# Altium integrated library ArgoFC.IntLib: 104 symbols (part 1 of 2)
Pins are listed as number, name and electrical type; pins without a type are passive.

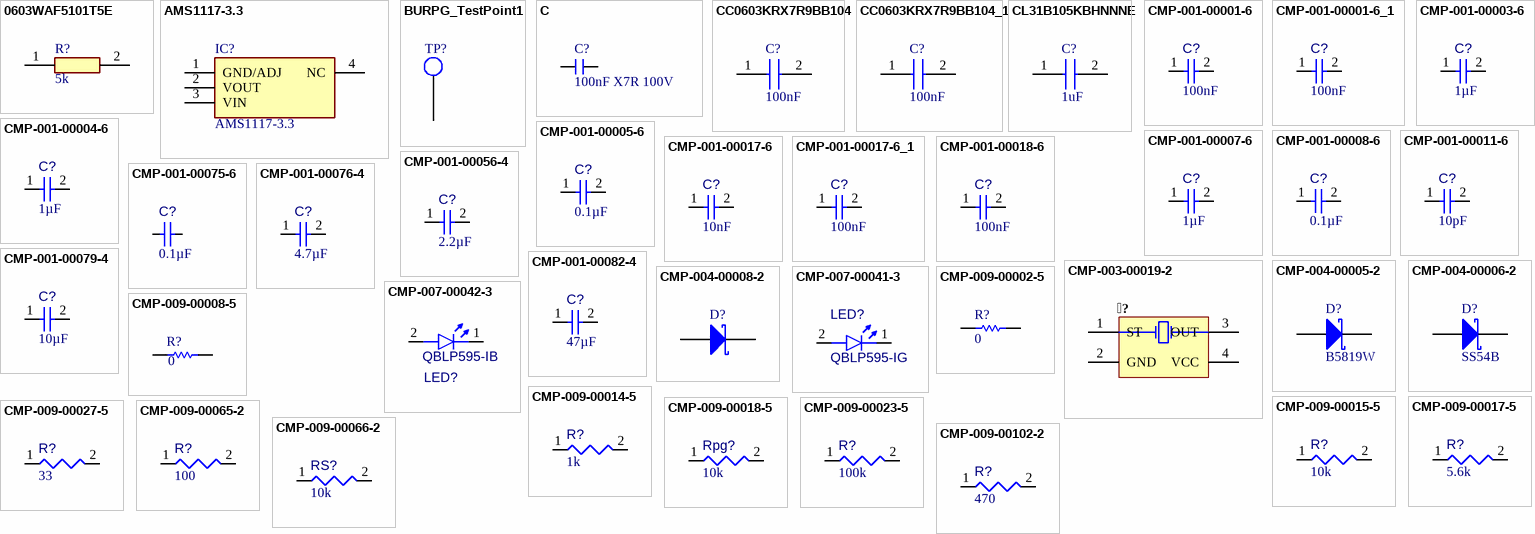
[diagram p0: symbols 0603WAF5101T5E to CMP-009-00102-2]

## 0603WAF5101T5E
designator R?, comment 5k
0603 5K resistor, Pick based component in JLCPCB lib; Manufacturer_Name: UNI-ROYAL(Uniroyal Elec); Manufacturer_Part_Number: 0603WAF5101T5E; Datasheet Link: https://datasheet.lcsc.com/szlcsc/Uniroyal-Elec-0603WAF5101T5E_C23186.pdf; Height: 0.55mm
footprint RESC1608X55N
pins: 1, 2

## AMS1117-3.3
designator IC?
Integrated Circuit; Manufacturer_Name: Advanced; Datasheet Link: https://datasheet.datasheetarchive.com/originals/distributors/Datasheets-28/DSA-550594.pdf; Height: 1.8mm; Manufacturer_Part_Number: AMS1117-3.3
footprint SOT229P700X180-4N
pins: 1 GND/ADJ, 2 VOUT, 3 VIN, 4 NC

## BURPG_TestPoint1
designator TP?  (value not drawn)  (no BOM)
footprint BURPG_TestPoint1
pins: 1

## C
designator C?, comment 100nF X7R 100V
贴片电容; BOM名称: 无极性贴片电容; 淘宝ID: 封装库来自淘宝 ID：黄晶宝石; 联系售后，技术支持: https://shop463601444.taobao.com; 唯一出售店铺网址: https://shop463601444.taobao.com
footprint C0201_L (Footprint not found)
footprint C0402_L (无极性贴片电容)
footprint C0603_L (无极性贴片电容)
footprint C1206_L (无极性贴片电容)
footprint C1210_L (无极性贴片电容)
footprint C1808_L (无极性贴片电容)
footprint C1812_L (无极性贴片电容)
footprint C1825_L (无极性贴片电容)
footprint C2225_L (无极性贴片电容)
footprint C0201_M (无极性贴片电容)
footprint C0402_M (无极性贴片电容)
footprint C0603_M (无极性贴片电容)
footprint C0805_M (无极性贴片电容)
footprint C1206_M (无极性贴片电容)
footprint C1210_M (无极性贴片电容)
footprint C1808_M (无极性贴片电容)
footprint C1812_M (无极性贴片电容)
footprint C1825_M (无极性贴片电容)
footprint C2225_M (无极性贴片电容)
footprint C0805_L (无极性贴片电容)
pins: 1, 2

## CC0603KRX7R9BB104
designator C?, comment 100nF
Capacitor,0603, 50V; Manufacturer_Name: YAGEO; Manufacturer_Part_Number: CC0603KRX7R9BB104; Datasheet Link: https://componentsearchengine.com/Datasheets/2/CC0603KRX7R9BB104.pdf; Height: 0.9mm; Mouser Part Number: 603-CC603KRX7R9BB104; Mouser Price/Stock: https://www.mouser.co.uk/ProductDetail/YAGEO/CC0603KRX7R9BB104?qs=vTakOoo5QyLvVCYM2ge8LQ%3D%3D; Arrow Part Number: CC0603KRX7R9BB104; Arrow Price/Stock: https://www.arrow.com/en/products/cc0603krx7r9bb104/yageo?utm_currency=USD&region=europe
footprint CAPC1608X90N
pins: 1, 2

## CC0603KRX7R9BB104_1
designator C?, comment 100nF
Capacitor,0603; Manufacturer_Name: YAGEO; Manufacturer_Part_Number: CC0603KRX7R9BB104; Datasheet Link: https://componentsearchengine.com/Datasheets/2/CC0603KRX7R9BB104.pdf; Height: 0.9mm; Mouser Part Number: 603-CC603KRX7R9BB104; Mouser Price/Stock: https://www.mouser.co.uk/ProductDetail/YAGEO/CC0603KRX7R9BB104?qs=vTakOoo5QyLvVCYM2ge8LQ%3D%3D; Arrow Part Number: CC0603KRX7R9BB104; Arrow Price/Stock: https://www.arrow.com/en/products/cc0603krx7r9bb104/yageo?utm_currency=USD&region=europe
footprint CAPC1608X90N
pins: 1, 2

## CL31B105KBHNNNE
designator C?, comment 1uF
1uF,1206, 50v; Manufacturer_Name: SAMSUNG; Manufacturer_Part_Number: CL31B105KBHNNNE; Datasheet Link: https://datasheet.datasheetarchive.com/originals/distributors/Datasheets_SAMA/5cd9a1c15dad09a7278f50cb1a2e4a6e.pdf; Height: 1.8mm; Mouser Part Number: 187-CL31B105KBHNNNE; Mouser Price/Stock: https://www.mouser.co.uk/ProductDetail/Samsung-Electro-Mechanics/CL31B105KBHNNNE?qs=349EhDEZ59oPJzVuH4J5mw%3D%3D; Arrow Part Number: CL31B105KBHNNNE; Arrow Price/Stock: https://www.arrow.com/en/products/cl31b105kbhnnne/samsung-electro-mechanics?utm_currency=USD&region=europe
footprint CAPC3216X180N
pins: 1, 2

## CMP-001-00001-6
designator C?, comment value 100nF  (hidden comment: CAP-NP-2)
Chip Capacitor, 0.1 uF, +/- 5%, 16 V, 0402 (1005 Metric); Capacitor Type: Ceramic; Voltage Rating: 16V; Case/Package: 0402; Max Operating Temperature: 125°C; Min Operating Temperature: -55°C; Mounting Technology: SM; Pins: 2; RoHS Compliant: True; Tolerance: 5%
footprint CAPC1005X56X25LL10T15 (Chip Capacitor, 2-Leads, Body 1.10x0.60mm, IPC High Density)
footprint CAPC1005X56X25NL10T15 (Chip Capacitor, 2-Leads, Body 1.10x0.60mm, IPC Medium Density)
footprint CAPC1005X56X25ML10T15 (Chip Capacitor, 2-Leads, Body 1.10x0.60mm, IPC Low Density)
pins: 1, 2

## CMP-001-00001-6_1
designator C?, comment value 100nF  (hidden comment: Capacitor 0.1 uF +/- 5% 16 V 0402)
Chip Capacitor, 0.1 uF, +/- 5%, 16 V, 0402 (1005 Metric); Manufacturer: KEMET; Manufacturer Part Number: C0402C104J4RACTU; Manufacturer: Murata; Manufacturer Part Number: GRM155R71C104JA88D; Capacitor Type: Ceramic; Voltage Rating: 16V; Max Operating Temperature: 125°C; Min Operating Temperature: -55°C; Case/Package: 0402; Mounting Technology: SM; Pins: 2; Tolerance: 5%; RoHS Compliant: True; Component Type: Capacitors
footprint CAPC1005X56X25LL10T15 (Chip Capacitor, 2-Leads, Body 1.10x0.60mm, IPC High Density)
footprint CAPC1005X56X25NL10T15 (Chip Capacitor, 2-Leads, Body 1.10x0.60mm, IPC Medium Density)
footprint CAPC1005X56X25ML10T15 (Chip Capacitor, 2-Leads, Body 1.10x0.60mm, IPC Low Density)
pins: 1, 2

## CMP-001-00003-6
designator C?, comment value 1µF  (hidden comment: Capacitor 1 uF +/- 10% 16 V 0603)
Chip Capacitor, 1 uF, +/- 10%, 16 V, 0603 (1608 Metric); Voltage Rating: 16V; Capacitor Type: Ceramic; Max Operating Temperature: 125°C; Pins: 2; Tolerance: 10%; Min Operating Temperature: -55°C; RoHS Compliant: True; Mounting Technology: SM; Case/Package: 0603
footprint CAPC1608X94X35NL15T15 (Chip Capacitor, 2-Leads, Body 1.75x0.96mm, IPC Medium Density)
footprint CAPC1608X94X35ML15T15 (Chip Capacitor, 2-Leads, Body 1.75x0.96mm, IPC Low Density)
footprint CAPC1608X94X35LL15T15 (Chip Capacitor, 2-Leads, Body 1.75x0.96mm, IPC High Density)
pins: 1, 2

## CMP-001-00004-6
designator C?, comment value 1µF  (hidden comment: CAP-NP-2)
Chip Capacitor, 1 uF, +/- 10%, 16 V, 0603 (1608 Metric); Capacitor Type: Ceramic; Voltage Rating: 16V; Case/Package: 0603; Max Operating Temperature: 125°C; Min Operating Temperature: -55°C; Mounting Technology: SM; Pins: 2; RoHS Compliant: True; Tolerance: 10%
footprint CAPC1608X90X35ML15T15 (Chip Capacitor, 2-Leads, Body 1.75x0.95mm, IPC Low Density)
footprint CAPC1608X90X35NL15T15 (Chip Capacitor, 2-Leads, Body 1.75x0.95mm, IPC Medium Density)
footprint CAPC1608X90X35LL15T15 (Chip Capacitor, 2-Leads, Body 1.75x0.95mm, IPC High Density)
pins: 1, 2

## CMP-001-00005-6
designator C?, comment value 0.1µF  (hidden comment: Capacitor 1 uF +/- 10% 25 V 0603)
Chip Capacitor, 1 uF, +/- 10%, 25 V, 0603 (1608 Metric); Capacitor Type: Ceramic; Voltage Rating: 25V; Pins: 2; Mounting Technology: SM; RoHS Compliant: True; Max Operating Temperature: 125°C; Case/Package: 0603; Min Operating Temperature: -55°C; Tolerance: 10%
footprint CAPC1608X90X40LL10T20 (Chip Capacitor, 2-Leads, Body 1.70x0.90mm, IPC High Density)
footprint CAPC1608X90X40ML10T20 (Chip Capacitor, 2-Leads, Body 1.70x0.90mm, IPC Low Density)
footprint CAPC1608X90X40NL10T20 (Chip Capacitor, 2-Leads, Body 1.70x0.90mm, IPC Medium Density)
pins: 1, 2

## CMP-001-00007-6
designator C?, comment value 1µF  (hidden comment: Capacitor 1 uF +/- 10% 50 V 0805)
Chip Capacitor, 1 uF, +/- 10%, 50 V, 0805 (2012 Metric); Capacitor Type: Ceramic; Voltage Rating: 50V; Case/Package: 0805; Max Operating Temperature: 125°C; Min Operating Temperature: -55°C; Mounting Technology: SM; Pins: 2; RoHS Compliant: True; Tolerance: 10%
footprint CAPC2013X135X45NL10T25 (Chip Capacitor, 2-Leads, Body 2.10x1.35mm, IPC Medium Density)
footprint CAPC2013X135X45LL10T25 (Chip Capacitor, 2-Leads, Body 2.10x1.35mm, IPC High Density)
footprint CAPC2013X135X45ML10T25 (Chip Capacitor, 2-Leads, Body 2.10x1.35mm, IPC Low Density)
pins: 1, 2

## CMP-001-00008-6
designator C?, comment value 0.1µF  (hidden comment: Capacitor 1 uF +/- 10% 6.3 V 0402)
Chip Capacitor, 1 uF, +/- 10%, 6.3 V, 0402 (1005 Metric); Capacitor Type: Ceramic; Voltage Rating: 6.3V; Max Operating Temperature: 85°C; Mounting Technology: SM; Tolerance: 10%; Case/Package: 0402; RoHS Compliant: True; Min Operating Temperature: -55°C; Pins: 2
footprint CAPC1005X55X25LL05T10 (Chip Capacitor, 2-Leads, Body 1.05x0.55mm, IPC High Density)
footprint CAPC1005X55X25ML05T10 (Chip Capacitor, 2-Leads, Body 1.05x0.55mm, IPC Low Density)
footprint CAPC1005X55X25NL05T10 (Chip Capacitor, 2-Leads, Body 1.05x0.55mm, IPC Medium Density)
pins: 1, 2

## CMP-001-00011-6
designator C?, comment value 10pF  (hidden comment: Capacitor 10 pF +/- 0.25 pF 50 V 0402)
Chip Capacitor, 10 pF, +/- 0.25 pF, 50 V, 0402 (1005 Metric); Manufacturer: KEMET; Manufacturer Part Number: C0402C100C5GACTU; Manufacturer: Kyocera AVX; Manufacturer Part Number: 04025A100JAT2A; Manufacturer: TDK; Manufacturer Part Number: C1005C0G1H100D050BA; Voltage Rating: 50V; Tolerance: 0.25%; Capacitor Type: Ceramic; Mounting Technology: SM; Pins: 2; Case/Package: 0402; Min Operating Temperature: -55°C; RoHS Compliant: True; Max Operating Temperature: 125°C; Component Type: Capacitors
footprint CAPC1005X55X30LL05T10 (Chip Capacitor, 2-Leads, Body 1.05x0.55mm, IPC High Density)
footprint CAPC1005X55X30ML05T10 (Chip Capacitor, 2-Leads, Body 1.05x0.55mm, IPC Low Density)
footprint CAPC1005X55X30NL05T10 (Chip Capacitor, 2-Leads, Body 1.05x0.55mm, IPC Medium Density)
pins: 1, 2

## CMP-001-00017-6
designator C?, comment value 10nF  (hidden comment: Capacitor 100 nF +/-10% 50 V 0603)
Chip Capacitor, 100 nF, +/- 10%, 50 V, 0603 (1608 Metric); Voltage Rating: 50V; Capacitor Type: Ceramic; Tolerance: 10%; Mounting Technology: SM; Max Operating Temperature: 125°C; RoHS Compliant: True; Pins: 2; Case/Package: 0603; Min Operating Temperature: -55°C
footprint CAPC1608X90X40NL10T20 (Chip Capacitor, 2-Leads, Body 1.70x0.90mm, IPC Medium Density)
footprint CAPC1608X90X40LL10T20 (Chip Capacitor, 2-Leads, Body 1.70x0.90mm, IPC High Density)
footprint CAPC1608X90X40ML10T20 (Chip Capacitor, 2-Leads, Body 1.70x0.90mm, IPC Low Density)
pins: 1, 2

## CMP-001-00017-6_1
designator C?, comment value 100nF  (hidden comment: Capacitor 100 nF +/-10% 50 V 0603)
Chip Capacitor, 100 nF, +/- 10%, 50 V, 0603 (1608 Metric); Manufacturer: Kyocera AVX; Manufacturer Part Number: 06035C104KAT2A; Manufacturer: Yageo; Manufacturer Part Number: CC0603KRX7R9BB104; Manufacturer: Murata; Manufacturer Part Number: GRM188R71H104KA93D; Voltage Rating: 50V; Capacitor Type: Ceramic; Tolerance: 10%; Mounting Technology: SM; Max Operating Temperature: 125°C; RoHS Compliant: True; Pins: 2; Case/Package: 0603; Min Operating Temperature: -55°C; Component Type: Capacitors
footprint CAPC1608X90X40NL10T20 (Chip Capacitor, 2-Leads, Body 1.70x0.90mm, IPC Medium Density)
footprint CAPC1608X90X40LL10T20 (Chip Capacitor, 2-Leads, Body 1.70x0.90mm, IPC High Density)
footprint CAPC1608X90X40ML10T20 (Chip Capacitor, 2-Leads, Body 1.70x0.90mm, IPC Low Density)
pins: 1, 2

## CMP-001-00018-6
designator C?, comment value 100nF  (hidden comment: Capacitor 100 nF +/-10% 50 V 0805)
Chip Capacitor, 100 nF, +/- 10%, 50 V, 0805 (2012 Metric); Capacitor Type: Ceramic; Voltage Rating: 50V; Case/Package: 0805; Max Operating Temperature: 125°C; Min Operating Temperature: -55°C; Mounting Technology: SM; Pins: 2; RoHS Compliant: True; Tolerance: 10%
footprint CAPC2013X95X50LL10T25 (Chip Capacitor, 2-Leads, Body 2.10x1.35mm, IPC High Density)
footprint CAPC2013X95X50NL10T25 (Chip Capacitor, 2-Leads, Body 2.10x1.35mm, IPC Medium Density)
footprint CAPC2013X95X50ML10T25 (Chip Capacitor, 2-Leads, Body 2.10x1.35mm, IPC Low Density)
pins: 1, 2

## CMP-001-00056-4
designator C?, comment value 2.2µF  (hidden comment: CAP-NP-2)
Chip Capacitor, 2,2µF +/-20%, 10V, 0402, Thickness 0.6 mm; Tolerance: 10%; Case/Package: 0402; Max Operating Temperature: 85°C; Min Operating Temperature: -55°C; Mounting Technology: SMT; Pins: 2; Voltage Rating: 10V
footprint CAPC0402(1005)60_L (Chip Capacitor, Body 1.0x0.5mm, Height 0.6mm, IPC High Density)
pins: 1, 2

## CMP-001-00075-6
designator C?, comment value 0.1µF  (hidden comment: Capacitor 10µF +/-20% 10V 0603)
Chip Capacitor, 10µF +/-20%, 10V, 0603, Thickness 1 mm; Tolerance: 10%; Mounting Technology: SMT; Case/Package: 0603; Max Operating Temperature: 85°C; Voltage Rating: 10V; Pins: 2; Min Operating Temperature: -55°C
footprint CAPC0603(1608)100_L (Chip Capacitor, Body 1.6x0.8mm, Height 1.0mm, IPC High Density)
pins: 1, 2

## CMP-001-00076-4
designator C?, comment value 4.7µF  (hidden comment: Capacitor 4.7µF +/-20% 10V 0603)
Chip Capacitor, 4.7µF +/-20%, 10V, 0603, Thickness 1 mm; Tolerance: 10%; Mounting Technology: SMT; Case/Package: 0603; Pins: 2; Min Operating Temperature: -55°C; Max Operating Temperature: 85°C; Voltage Rating: 10V
footprint CAPC0603(1608)100_L (Chip Capacitor, Body 1.6x0.8mm, Height 1.0mm, IPC High Density)
pins: 1, 2

## CMP-001-00079-4
designator C?, comment value 10µF  (hidden comment: Capacitor 10µF +/-20% 25V 0805)
Chip Capacitor, 10µF +/-20%, 25V, 0805, Thickness 1.45 mm; Manufacturer: Yageo; Manufacturer Part Number: CC0805KKX5R8BB106; Manufacturer: TDK; Manufacturer Part Number: C2012X5R1E106K125AB; Manufacturer: Samsung; Manufacturer Part Number: CL21A106KACLRNC; Manufacturer Part Number: C2012X5R1E106K; Manufacturer: Murata; Manufacturer Part Number: GRM21BR61E106KA73L; Manufacturer Part Number: C2012X5R1E106K085AC; Tolerance: 10%; Max Operating Temperature: 85°C; Case/Package: 0805; Voltage Rating: 25V; Min Operating Temperature: -55°C; Mounting Technology: SMT; Pins: 2; Component Type: Capacitors
footprint CAPC0805(2012)145_L (Chip Capacitor, Body 2.0x1.2mm, Height 1.45mm, IPC High Density)
pins: 1, 2

## CMP-001-00082-4
designator C?, comment value 47µF  (hidden comment: Capacitor 47µF +/-40% 6.3V 0805)
Chip Capacitor, 47µF +/-40%, 50V, 0805, Thickness 1.45 mm; Manufacturer: Murata; Manufacturer Part Number: GRM21BR60J476ME15K; Manufacturer: KEMET; Manufacturer Part Number: C0805C476M9PAC; Manufacturer Part Number: C0805C476M9PAC-TU; Manufacturer: Taiyo Yuden; Manufacturer Part Number: JMK212BBJ476MG-T; Manufacturer: TDK; Manufacturer Part Number: C2012X5R0J476M; Manufacturer Part Number: GRM21BR60J476ME15L; Manufacturer: Samsung; Manufacturer Part Number: CL21A476MQYNNNE; Tolerance: 10%; Min Operating Temperature: -55°C; Max Operating Temperature: 85°C; Case/Package: 0805; Pins: 2; Mounting Technology: SMT; Voltage Rating: 6.3V; Component Type: Capacitors
footprint CAPC0805(2012)145_L (Chip Capacitor, Body 2.0x1.2mm, Height 1.45mm, IPC High Density)
pins: 1, 2

## CMP-003-00019-2
designator ?
Ceramic SMD Crystal, 24 MHz, +/- 20 ppm, 18 pF, -20 to 70 degC, 4-Pin SMD, RoHS, Tape and Reel; Manufacturer: Abracon; Load Capacitance: 18pF; Frequency Tolerance: 20ppm; ESR: 50; Resistance: 50Ohm; Frequency: 24MHz; Package Quantity: 1000; Packaging: TapeandReel; RoHS Compliant: True; Package Description: 4-Pin Surface Mount Device, Body 5 x 3.2 mm; Mounting Technology: SM; Pins: 4; Datasheet URL: http://www.abracon.com/Resonators/abm3b.pdf; Tolerance: 20ppm; Manufacturer URL: http://www.abracon.com/; Max Operating Temperature: 70°C; Datasheet Version: Aug-15; Min Operating Temperature: -20°C; Package Reference: ABM3B; Case/Package: CSMD
footprint ABRA-ABM3B-4_V (SMD, 4-Leads, Body 5x3.2mm)
pins: 1 ST, 2 GND (power), 3 OUT, 4 VCC (power)

## CMP-004-00005-2
designator D?, comment B5819W
Schottky Barrier Rectifier, 40 V, 1 A, -65 to 125 degC, 2-Pin SOD123, RoHS, Tape and Reel; Manufacturer: Micro Commercial Components; Manufacturer: MCC; Manufacturer Part Number: B5819W-TP; Datasheet Version: Rev. B, 01/2013; RoHS Compliant: Unknown; Manufacturer URL: http://www.mccsemi.com/; Package URL: http://www.mccsemi.com/up_pdf/1N4448W(SOD-123).pdf; Case/Package: SOD123; Mounting Technology: SM; Datasheet URL: http://www.mccsemi.com/up_pdf/B5817W-B5819W(SOD-123).pdf; Package Description: 2-Pin Small Outline Diode, Body 2.7 x 1.6 mm, Height 1.35 mm; Package Reference: SOD123; Component Type: Diodes
footprint MCC-SOD123_V (SOD123, 2-Leads, Body 2.7x1.6mm, Height 1.35mm)
pins: 1 A, 2 K

## CMP-004-00006-2
designator D?, comment SS54B
Schottky Barrier Rectifier, 40 V, 5 A, -55 to 150 degC, 2-Pin SMD; Manufacturer: JCET; Datasheet URL: http://wiki.seeedstudio.com/images/3/3f/0310130P1.pdf; Datasheet Version: May-13; Package Reference: SMB-2; RoHS Compliant: Unknown; Manufacturer URL: http://www.cj-elec.com/; Mounting Technology: SM; Package Description: 2-Pin Surface Mount Device, Body 4.315 x 3.62 mm; Case/Package: SMB-2; Component Type: Diodes
footprint JCET-SMB-2_M (Molded Diode, 2-Leads, Body 4.57x3.94mm)
footprint JCET-SMB-2_N (Molded Diode, 2-Leads, Body 4.57x3.94mm)
footprint JCET-SMB-2_L (Molded Diode, 2-Leads, Body 4.57x3.94mm)
pins: 1 A, 2 K

## CMP-004-00008-2
designator D?
Axial Lead Rectifier, 60 V, 3 A, -65 to 150 degC, 2-Pin DO-201AD, RoHS, Bag; Manufacturer: ON Semiconductor; Forward Current: 3A; Forward Voltage: 1.08V; Peak Reverse Current: 600uA; Max Surge Current: 80A; Package URL: http://www.onsemi.com/pub_link/Collateral/267-05.PDF; Datasheet URL: http://www.onsemi.cn/pub_link/Collateral/MBR350-D.PDF; Package Description: 2-Pin Axial Lead, Dia 5.05 mm, Body Length 8.4 mm; Package Reference: AXIAL_LEAD-2-267-05; Diameter: 5.3mm; Datasheet Version: Rev. 6, 06/2006; Package Quantity: 500; Packaging: Bulk; Manufacturer URL: http://www.onsemi.com/; Pins: 2; Max Operating Temperature: 150°C; Min Operating Temperature: -65°C; Mounting Technology: TH; RoHS Compliant: True; Case/Package: AXIAL_LEAD-2-267-05
footprint ONSC-AXIAL_LEAD-2-267-05_V (AXIAL, 2-Leads, Diameter 5.05mm)
pins: 1 A, 2 K

## CMP-007-00041-3
designator LED?, comment QBLP595-IG
Chip LED 0402, Green, 0.02 A, 3.1 to 3.7 V, -40 to 80 degC, 2-Pin SMD, RoHS, Tape and Reel; Manufacturer: QT-Brightek; Case/Package: 0402; Colour: Green; Mounting Technology: SMT; Pins: 2; RoHS Compliant: Yes; Manufacturer Part Number: QBLP595-IG; Component Type: LED
footprint QTB-QBLP595_V (SMD, 2-Leads, Body 1x0.5mm)
pins: 1 K, 2 A

## CMP-007-00042-3
designator LED?, comment QBLP595-IB
Chip LED 0402, Blue, 0.02 A, 3.1 to 3.7 V, -40 to 80 degC, 2-Pin SMD, RoHS, Tape and Reel; Manufacturer: QT-Brightek; RoHS Compliant: Yes; Colour: Blue; Pins: 2; Case/Package: 0402; Mounting Technology: SMT; Manufacturer Part Number: QBLP595-IB; Component Type: LED
footprint QTB-QBLP595_V (SMD, 2-Leads, Body 1x0.5mm)
pins: 1 K, 2 A

## CMP-009-00002-5
designator R?, comment value 0  (hidden comment: Resistor 0R +/- 5% 1206 250 mW)
Chip Resistor, 0 Ohm, +/- 5%, 0.25 W, -55 to 155 degC, 1206 (3216 Metric); Voltage Rating: 200V; Power: 250mW; Tolerance: 5%; Min Operating Temperature: -55°C; Mounting Technology: SM; Max Operating Temperature: 155°C; Case/Package: 1206; RoHS Compliant: True; Pins: 2
footprint RESC3216X60X45ML15T20 (Chip Resistor, 2-Leads, Body 3.3x1.75mm, IPC Low Density)
footprint RESC3216X60X45NL15T20 (Chip Resistor, 2-Leads, Body 3.3x1.75mm, IPC Medium Density)
footprint RESC3216X60X45LL15T20 (Chip Resistor, 2-Leads, Body 3.3x1.75mm, IPC High Density)
pins: 1, 2

## CMP-009-00008-5
designator R?, comment value 0  (hidden comment: Resistor 0R +/- 0.05% 1206 250 mW)
Chip Resistor, 0 Ohm, 0.25 W, -55 to 155 degC, 1206 (3216 Metric); Voltage Rating: 200V; Power: 250mW; Pins: 2; Min Operating Temperature: -55°C; Tolerance: 0.05%; RoHS Compliant: True; Max Operating Temperature: 155°C; Mounting Technology: SM; Case/Package: 1206
footprint RESC3116X70X50ML13T20 (Chip Resistor, 2-Leads, Body 3.25x1.65mm, IPC Low Density)
footprint RESC3116X70X50NL13T20 (Chip Resistor, 2-Leads, Body 3.25x1.65mm, IPC Medium Density)
footprint RESC3116X70X50LL13T20 (Chip Resistor, 2-Leads, Body 3.25x1.65mm, IPC High Density)
pins: 1, 2

## CMP-009-00014-5
designator R?, comment value 1k  (hidden comment: Resistor 1k +/-1% 0603 100 mW)
Chip Resistor, 1 KOhm, +/-1%, 0.1 W, -55 to 155 degC, 0603 (1608 Metric); Manufacturer: Yageo; Manufacturer Part Number: RC0603FR-071KL; Manufacturer: Panasonic; Manufacturer Part Number: ERJ-3EKF1001V; Manufacturer Part Number: RC0603FR-131KL; Voltage Rating: 50V; Power: 100mW; Tolerance: 1%; Mounting Technology: SM; Pins: 2; Case/Package: 0603; Min Operating Temperature: -55°C; RoHS Compliant: True; Max Operating Temperature: 155°C; Component Type: Resistors
footprint RESC1608X55X25ML10T15 (Chip Resistor, 2-Leads, Body 1.70x0.90mm, IPC Low Density)
footprint RESC1608X55X25NL10T15 (Chip Resistor, 2-Leads, Body 1.70x0.90mm, IPC Medium Density)
footprint RESC1608X55X25LL10T15 (Chip Resistor, 2-Leads, Body 1.70x0.90mm, IPC High Density)
pins: 1, 2
1 alternate drawing of the same symbol

## CMP-009-00015-5
designator R?, comment value 10k  (hidden comment: RES-2)
Chip Resistor, 10 KOhm, +/- 1%, 0.1 W, -55 to 155 degC, 0402 (1005 Metric); Power: 100mW; Voltage Rating: 50V; Case/Package: 0402; Max Operating Temperature: 155°C; Min Operating Temperature: -55°C; Mounting Technology: SM; Pins: 2; RoHS Compliant: True; Tolerance: 1%
footprint RESC1005X40X25ML05T05 (Chip Resistor, 2-Leads, Body 1.05x0.55mm, IPC Low Density)
footprint RESC1005X40X25NL05T05 (Chip Resistor, 2-Leads, Body 1.05x0.55mm, IPC Medium Density)
footprint RESC1005X40X25LL05T05 (Chip Resistor, 2-Leads, Body 1.05x0.55mm, IPC High Density)
pins: 1, 2
1 alternate drawing of the same symbol

## CMP-009-00017-5
designator R?, comment value 5.6k  (hidden comment: Resistor 10k +/-1% 0603 100 mW)
Chip Resistor, 10 KOhm, +/- 1%, 01 W, -55 to 155 degC, 0603 (1608 Metric); Voltage Rating: 50V; Power: 100mW; RoHS Compliant: True; Min Operating Temperature: -55°C; Pins: 2; Case/Package: 0603; Mounting Technology: SM; Max Operating Temperature: 155°C; Tolerance: 1%
footprint RESC1608X55X25ML10T15 (Chip Resistor, 2-Leads, Body 1.70x0.90mm, IPC Low Density)
footprint RESC1608X55X25NL10T15 (Chip Resistor, 2-Leads, Body 1.70x0.90mm, IPC Medium Density)
footprint RESC1608X55X25LL10T15 (Chip Resistor, 2-Leads, Body 1.70x0.90mm, IPC High Density)
pins: 1, 2
1 alternate drawing of the same symbol

## CMP-009-00018-5
designator Rpg?, comment value 10k  (hidden comment: Resistor 10k +/-1% 0805 125 mW)
Chip Resistor, 10 KOhm, +/- 1%, 125 mW, -55 to 155 degC, 0805 (2012 Metric); Manufacturer: Yageo; Manufacturer Part Number: RC0805FR-0710KL; Manufacturer: Vishay; Manufacturer Part Number: CRCW080510K0FKEA; Manufacturer: Panasonic; Manufacturer Part Number: ERJ-6ENF1002V; Power: 125mW; Voltage Rating: 150V; Tolerance: 1%; Pins: 2; Min Operating Temperature: -55°C; Case/Package: 0805; Max Operating Temperature: 155°C; RoHS Compliant: True; Mounting Technology: SM; Component Type: Resistors
footprint RESC2013X50X35ML15T15 (Chip Resistor, 2-Leads, Body 2.2x1.4mm, IPC Low Density)
footprint RESC2013X50X35NL15T15 (Chip Resistor, 2-Leads, Body 2.2x1.4mm, IPC Medium Density)
footprint RESC2013X50X35LL15T15 (Chip Resistor, 2-Leads, Body 2.2x1.4mm, IPC High Density)
pins: 1, 2
1 alternate drawing of the same symbol

## CMP-009-00023-5
designator R?, comment value 100k  (hidden comment: Resistor 100k +/-1% 0603 100 mW)
Chip Resistor, 100 KOhm, +/- 1%, 0.1 W, -55 to 155 degC, 0603 (1608 Metric); Manufacturer: Yageo; Manufacturer Part Number: RC0603FR-07100KL; Manufacturer: Vishay; Manufacturer Part Number: CRCW0603-100KFKEA; Manufacturer Part Number: RC0603FR-13100KL; Manufacturer: Panasonic; Manufacturer Part Number: ERJ-3EKF1003V; Voltage Rating: 50V; Power: 100mW; Max Operating Temperature: 155°C; RoHS Compliant: True; Tolerance: 1%; Pins: 2; Case/Package: 0603; Mounting Technology: SM; Min Operating Temperature: -55°C; Component Type: Resistors
footprint RESC1608X55X25ML10T15 (Chip Resistor, 2-Leads, Body 1.70x0.90mm, IPC Low Density)
footprint RESC1608X55X25NL10T15 (Chip Resistor, 2-Leads, Body 1.70x0.90mm, IPC Medium Density)
footprint RESC1608X55X25LL10T15 (Chip Resistor, 2-Leads, Body 1.70x0.90mm, IPC High Density)
pins: 1, 2
1 alternate drawing of the same symbol

## CMP-009-00027-5
designator R?, comment value 33  (hidden comment: Resistor 22R +/-1% 0603 100 mW)
Chip Resistor, 22 Ohm, +/- 1%, 100 mW, -55 to 155 degC, 0603 (1608 Metric); Power: 100mW; Voltage Rating: 75V; Max Operating Temperature: 155°C; Min Operating Temperature: -55°C; Tolerance: 1%; RoHS Compliant: True; Mounting Technology: SM; Case/Package: 0603; Pins: 2
footprint RESC1609X50X30ML08T20 (Chip Resistor, 2-Leads, Body 1.65x0.95mm, IPC Low Density)
footprint RESC1609X50X30NL08T20 (Chip Resistor, 2-Leads, Body 1.65x0.95mm, IPC Medium Density)
footprint RESC1609X50X30LL08T20 (Chip Resistor, 2-Leads, Body 1.65x0.95mm, IPC High Density)
pins: 1, 2
1 alternate drawing of the same symbol

## CMP-009-00065-2
designator R?, comment value 100  (hidden comment: 100R2F)
100R 0.063W 1% 0402 (1005 Metric)  SMD; Power: 63mW; Tolerance: 1%; Case/Package: 0402; Pins: 2; Mounting Technology: SMT; Component Type: Resistors
footprint RESC0402(1005)_L (Chip Resistor, Body 1.0x0.5mm, IPC High Density)
pins: 1, 2
1 alternate drawing of the same symbol

## CMP-009-00066-2
designator RS?, comment value 10k  (hidden comment: 10KR2F)
10K 0.063W 1% 0402 (1005 Metric)  SMD; Power: 63mW; Case/Package: 0402; Mounting Technology: SMT; Pins: 2; Tolerance: 1%; Component Type: Resistors
footprint RESC0402(1005)_L (Chip Resistor, Body 1.0x0.5mm, IPC High Density)
pins: 1, 2
1 alternate drawing of the same symbol

## CMP-009-00102-2
designator R?, comment value 470  (hidden comment: 470R5J)
470R 0.125W 5% 0805 (2012 Metric)  SMD; Power: 125mW; Pins: 2; Case/Package: 0805; Mounting Technology: SMT; Tolerance: 5%; Component Type: Resistors
footprint RESC0805(2012)_L (Chip Resistor, Body 2.0x1.3mm, IPC High Density)
pins: 1, 2
1 alternate drawing of the same symbol

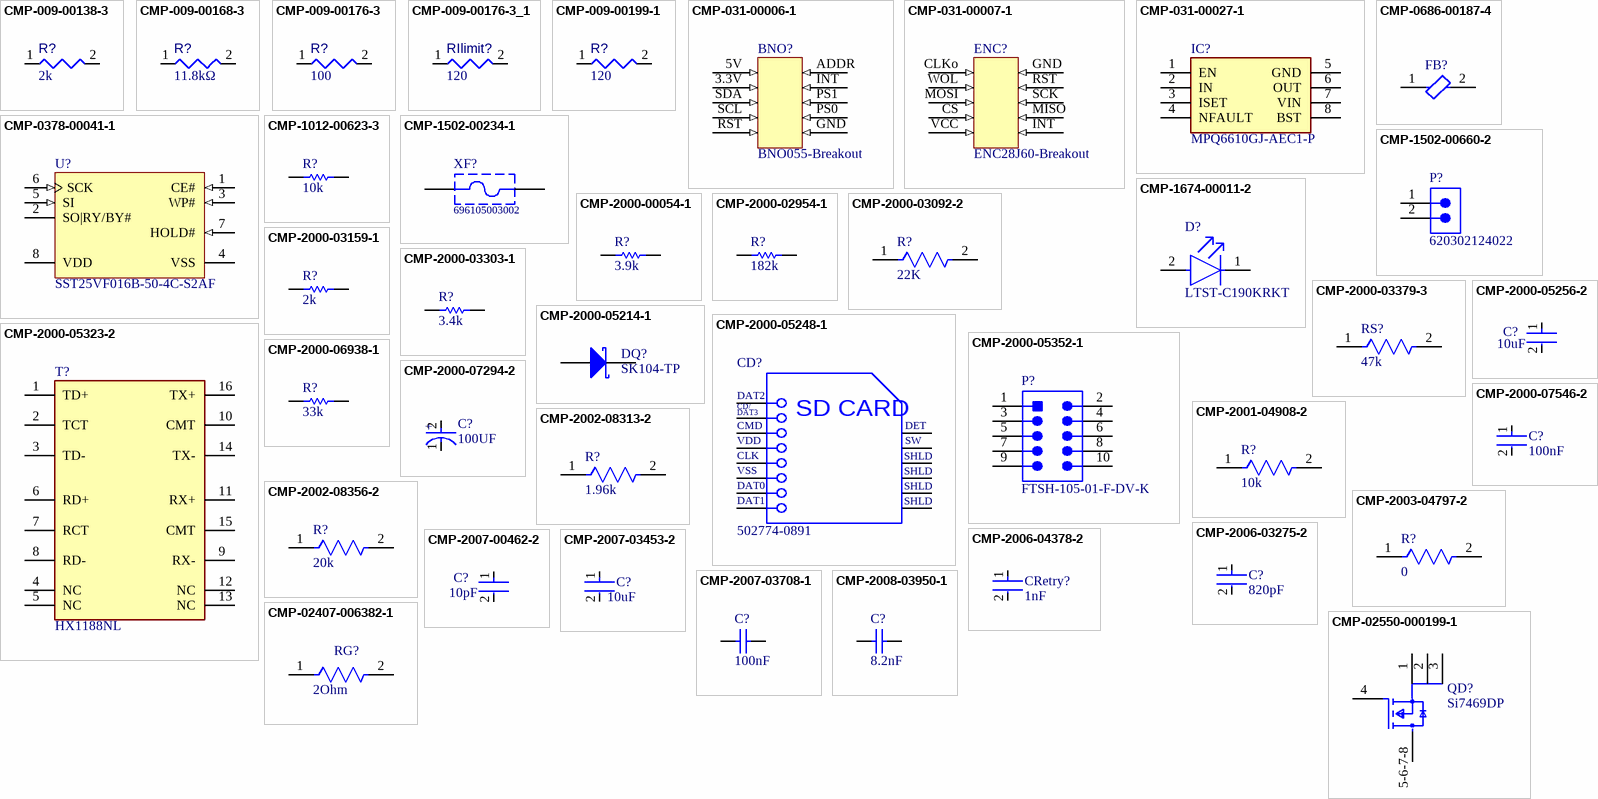
[diagram p1: symbols CMP-009-00138-3 to CMP-02550-000199-1]

## CMP-009-00138-3
designator R?, comment value 2k  (hidden comment: Resistor 2K +/-5 % 0402 63 mW)
Chip Resistor, 2 kOhms, +/-5 %, 63 mW, -55 to 155 degC, 0402; Manufacturer: Bourns; Manufacturer Part Number: CR0402-JW-202GLF; Manufacturer: Yageo; Manufacturer Part Number: RC0402JR-072KL; Manufacturer: Panasonic; Manufacturer Part Number: ERJ-2GEJ202X; Manufacturer: Vishay Dale; Manufacturer Part Number: CRCW04022K00JNED; Manufacturer Part Number: CRCW04022K00JNTD; Tolerance: 5%; Power: 63mW; Max Operating Temperature: 155°C; Pins: 2; Min Operating Temperature: -55°C; Case/Package: 0402; Component Type: Resistors
footprint RESC0402(1005)_L (Chip Resistor, Body 1.0x0.5mm, IPC High Density)
pins: 1, 2
1 alternate drawing of the same symbol

## CMP-009-00168-3
designator R?, comment value 11.8kΩ  (hidden comment: Resistor 100K +/-1 % 0402 63 mW)
Chip Resistor, 100 kOhms, +/-1 %, 63 mW, -55 to 155 degC, 0402; Tolerance: 1%; Power: 63mW; Max Operating Temperature: 155°C; Min Operating Temperature: -55°C; Pins: 2; Case/Package: 0402
footprint RESC0402(1005)_L (Chip Resistor, Body 1.0x0.5mm, IPC High Density)
pins: 1, 2
1 alternate drawing of the same symbol

## CMP-009-00176-3
designator R?, comment value 100  (hidden comment: Resistor 120R +/-5 % 0603 0.1 W)
Chip Resistor, 120 Ohms, +/-5 %, 0.1 W, -55 to 155 degC, 0603; Power: 100mW; Tolerance: 5%; Max Operating Temperature: 155°C; Pins: 2; Case/Package: 0603; Min Operating Temperature: -55°C
footprint RESC0603(1608)_L (Chip Resistor, Body 1.6x0.8mm, IPC High Density)
pins: 1, 2
1 alternate drawing of the same symbol

## CMP-009-00176-3_1
designator RIlimit?, comment value 120  (hidden comment: Resistor 120R +/-5 % 0603 0.1 W)
Chip Resistor, 120 Ohms, +/-5 %, 0.1 W, -55 to 155 degC, 0603; Manufacturer: Bourns; Manufacturer Part Number: CR0603-JW-121ELF; Manufacturer: Panasonic; Manufacturer Part Number: ERJ-3GEYJ121V; Manufacturer: Vishay Dale; Manufacturer Part Number: CRCW0603120RJNEA; Manufacturer Part Number: CRCW0603120RJNEB; Manufacturer: Yageo; Manufacturer Part Number: RC0603JR-07120RL; Manufacturer Part Number: CRCW0603120RJNTA; Power: 100mW; Tolerance: 5%; Max Operating Temperature: 155°C; Pins: 2; Case/Package: 0603; Min Operating Temperature: -55°C; Component Type: Resistors
footprint RESC0603(1608)_L (Chip Resistor, Body 1.6x0.8mm, IPC High Density)
pins: 1, 2
1 alternate drawing of the same symbol

## CMP-009-00199-1
designator R?, comment value 120  (hidden comment: Resistor 20R +/-1% 0603 100 mW)
Chip Resistor, 20 Ohm, +/- 1%, 100 mW, -55 to 155 degC, 0603 (1608 Metric); Power: 100mW; Voltage Rating: 75V; RoHS Compliant: True; Tolerance: 1%; Mounting Technology: SM; Min Operating Temperature: -55°C; Pins: 2; Max Operating Temperature: 155°C; Case/Package: 0603
footprint RESC1609X50X30ML08T20 (Chip Resistor, 2-Leads, Body 1.65x0.95mm, IPC Low Density)
footprint RESC1609X50X30NL08T20 (Chip Resistor, 2-Leads, Body 1.65x0.95mm, IPC Medium Density)
footprint RESC1609X50X30LL08T20 (Chip Resistor, 2-Leads, Body 1.65x0.95mm, IPC High Density)
pins: 1, 2
1 alternate drawing of the same symbol

## CMP-031-00006-1
designator BNO?, comment BNO055-Breakout
Adafruit 9-Dof Absolute Orientation Imu Fusion Breakout - Bno055 Rohs Compliant: Yes
footprint 2472-Footprint-1
pins: 3.3V (in), 5V (in), ADDR (in), GND (in), INT (in), PS0 (in), PS1 (in), RST (in), SCL (in), SDA (in)

## CMP-031-00007-1
designator ENC?, comment ENC28J60-Breakout
footprint New footprint 1
pins: CLKo (in), CS (in), GND (in), INT (in), MISO (in), MOSI (in), RST (in), SCK (in), VCC (in), WOL (in)

## CMP-031-00027-1
designator IC?, comment MPQ6610GJ-AEC1-P
Integrated Circuit; Manufacturer_Name: Monolithic Power Systems (MPS); Height: 1mm; Manufacturer_Part_Number: MPQ6610GJ-AEC1-P; Design Item ID: MPQ6610GJ-AEC1-P; Datasheet Link: https://www.monolithicpower.com/en/documentview/productdocument/index/version/2/document_type/Datasheet/lang/en/sku/MPQ6610-AEC1/document_id/9806/; Source: SamacSys.SchLib; Component Type: Integrated Circuits
footprint SOT65P280X100-8N
pins: 1 EN, 2 IN, 3 ISET, 4 NFAULT, 5 GND, 6 OUT, 7 VIN, 8 BST

## CMP-0378-00041-1
designator U?, comment SST25VF016B-50-4C-S2AF
16 Mbit SPI Serial Flash, 2.7 to 3.6 V, 50 MHz, 0 to 70 degC, 8-pin SOIC (S2A8), Tube; Manufacturer: Microchip; PackageReference: SOIC-S2A8; PackageVersion: Rev. A; ComponentLink3URL: http://ww1.microchip.com/downloads/en/DeviceDoc/25051A.pdf; ComponentLink1Description: Manufacturer URL; ComponentLink4URL: http://www.microchip.com/SST25VF016B; ComponentLink1URL: http://www.microchip.com; DatasheetVersion: Rev. A; ComponentLink2URL: http://ww1.microchip.com/downloads/en/DeviceDoc/25044A.pdf; PackageDescription: 8-Lead Plastic Small Outline Intergrated Circuit, 5.275 x 5.275 mm Body, 1.27 mm Pitch; PartNumber: SST25VF016B-50-4C-S2AF; ComponentLink3Description: Package Specification; ComponentLink2Description: Datasheet; Mounting Technology: Surface Mount; ComponentLink4Description: Product URL
footprint MCHP-SOIC-S2A8_M (SOIC, 8-Leads, Body 5.275x5.275mm, Pitch 1.27mm, IPC Low Density)
footprint MCHP-SOIC-S2A8_L (SOIC, 8-Leads, Body 5.275x5.275mm, Pitch 1.27mm, IPC High Density)
footprint MCHP-SOIC-S2A8_N (SOIC, 8-Leads, Body 5.275x5.275mm, Pitch 1.27mm, IPC Medium Density)
pins: 1 CE# (in) "The device is enabled by a high to low transition on CE#. CE# must remain low for the duration of any command sequence.", 2 SO|RY/BY# (hiz), 3 WP# (in) "The Write Protect (WP#) pin is used to enable/disable BPL bit in the status register.", 4 VSS (power) "Ground", 5 SI (in) "To transfer commands, addresses, or data serially into the device. Inputs are latched on the rising edge of the serial clock.", 6 SCK (in) "To provide the timing of the serial interface. Commands, addresses, or input data are latched on the rising edge of the clock input, while output data is shifted out on the falling edge of the clock input.", 7 HOLD# (in) "To temporarily stop serial communication with SPI flash memory without resetting the device.", 8 VDD (power) "To provide power supply (2.7-3.6V)."

## CMP-0686-00187-4
designator FB?
Chip Ferrite Bead, 0402, 600Ω @ 100MHz, 0.52Ω, 25%, 300mA; DC Resistance-Max: 600mR; Number of Lines: 1; DC Resistance (DCR): 520mR; Shielding: Unshielded; Impedance: 600R; Material: Steel; Frequency: 100MHz; Lead Free: Lead Free; Max DC Current: 300mA; Test Frequency: 100MHz; Depth: 0.55mm; Length: 1mm; Case Code (Imperial): 0402; Packaging: Tape and Reel; Height: 0.5mm; Max Operating Temperature: 125°C; Military Standard: Not; REACH SVHC: No SVHC; Case Code (Metric): 1005; Series: BLM15AG_SN; Core Material: Ferrite; Termination: SMD/SMT; DC Current: 300mA; Package Quantity: 10000; Width: 0.5mm; RoHS Compliant: Yes; Min Operating Temperature: -55°C; Current Rating: 300mA; Case/Package: 0402; Number of Pins: 2; Radiation Hardening: No; Tolerance: 25%; Number of Circuits: 1; Max Current Rating: 300mA
footprint FP-BLM15-0_05-MFG
footprint FP-BLM15-0_05-IPC_A
footprint FP-BLM15-0_05-IPC_B
footprint FP-BLM15-0_05-IPC_C
pins: 1, 2

## CMP-1012-00623-3
designator R?, comment 10k
Chip Resistor, 10 KOhm, +/- 1%, 0.1 W, -55 to 155 degC, 0603 (1608 Metric), RoHS, Tape and Reel; Manufacturer: Panasonic; Voltage Rating: 75V; Case\/Package: 0603; Power Rating: 100mW; Resistance: 10KOhm; Temperature Coefficient: 100ppm\/degreesC; Number of Pins: 2; Package Reference: 603; Depth: 0.8mm; Mount: SurfaceMount; Package Description: 2-Pin Surface Mount Device, Body 1.6 x 0.85 mm; Datasheet Version: 02/2017; Length: 1.6mm; Lead Free: LeadFree; Height: 0.45mm; Number of Terminations: 2; Max Power Dissipation: 100mW; Min Operating Temperature: -55degC; Datasheet URL: https://industrial.panasonic.com/cdbs/www-data/pdf/RDA0000/AOA0000C304.pdf; Termination: SMD/SMT; Case Code (Metric): 1608; Case Code (Imperial): 0603; Tolerance: 1%; Max Operating Temperature: 155degC; RoHSCompliant: true; Voltage Rating (DC): 75V; Radiation Hardening: No; Packaging: TapeandReel; Composition: ThickFilm; Mounting Technology: SurfaceMount; Manufacturer URL: http://www.panasonic.com/; Width: 0.031inch; REACH SVHC: NoSVHC; Contact Plating: Tin; Military Standard: Not; Package Quantity: 1
footprint RESC1609X55X30LL15T15 (Chip Resistor, 2-Leads, Body 1.75x0.95mm, IPC High Density)
footprint RESC1609X55X30ML15T15 (Chip Resistor, 2-Leads, Body 1.75x0.95mm, IPC Low Density)
footprint RESC1609X55X30NL15T15 (Chip Resistor, 2-Leads, Body 1.75x0.95mm, IPC Medium Density)
pins: 1, 2

## CMP-1502-00234-1
designator XF?, comment 696105003002
WR-FSH Fuse Holder Blocks Fuse Holder Blocks Clip Cover for PCB; Manufacturer: Wurth Elektronik; Fuse Size: 5x20mm; Mounting Technology: THT; Publisher: WurthElektronik; Manufacturer URL: http://www.we-online.de; Package Reference: 696105003002; Part Number: 696105003002; Packaging: Box; Datasheet URL: https://katalog.we-online.de/em/datasheet/696105003002.pdf; Operating Temperature: -30to120degC
footprint 696105003002 (FUSEHOLDER BLOCKS - PCB - CLIP COVER - THT)
pins: 1, 2

## CMP-1502-00660-2
designator P?, comment 620302124022
NexarPartId: 18818242; Insulation: Insulated; Connector Type: Male Pin; Pitch: 2mm; Insulation Resistance: 1GΩ; Gender: Male; Voltage Rating: 125V; Number of Positions: 2; Contact Resistance: 20mΩ; Operating Supply Voltage: 100V; Current Rating: 2A; Contact Material: Copper; Number of Rows: 1; Flammability Rating: UL94 V-0; Housing Material: Nylon; Lead Pitch: 2mm; Orientation: Vertical; Max Operating Temperature: 85°C; Termination: SMD/SMT; REACH SVHC: Unknown; Contact Mating Length: 3.5052mm; RoHS: Compliant; Packaging: Tape and Reel; Number of Contacts: 2; Height: 6.6mm; Mount: Surface Mount; Number of Pins: 2; Contact Gender: Male; Min Operating Temperature: -40°C; Length: 5mm; Width: 7.9mm; Contact Plating: Tin; Color: Beige, White
footprint 620302124022 (WR-WTB Wire-to-Board Connectors 2.00 mm)
pins: 1, 2

## CMP-1674-00011-2
designator D?, comment LTST-C190KRKT
LED RED CLEAR CHIP SMD; Reverse Voltage: 5V; Viewing Angle: 130°; Power Rating: 75mW; Test Current: 20mA; Number of Elements: 1; Lens Color: Colorless; Wavelength: 639nm; Dominant Wavelength: 631nm; Lens Style: Diffused; Forward Current: 30mA; Forward Voltage: 2.4V; Luminous Intensity: 54mcd; Color: Red; Case Code (Imperial): 0603; Lens Transparency: Clear; Lead Free: Lead Free; Package Quantity: 1; Packaging: Tape and Reel; Max Operating Temperature: 85°C; Number of Pins: 2; Height: 0.8mm; Case/Package: 0603; Number of LEDs: 1; Width: 0.8mm; Case Code (Metric): 1608; Depth: 0.8mm; Mount: Surface Mount; Radiation Hardening: No; Length: 1.6mm; Illumination Color: Red; Power Dissipation: 75mW; Min Operating Temperature: -55°C
footprint FP-LTST-C190KRKT-MFG
pins: 1 C, 2 A

## CMP-2000-00054-1
designator R?, comment 3.9k
Fixed Resistor, Thin Film, 0.1W, 3900ohm, 75V, 0.1% +/-Tol, 25ppm/Cel, Surface Mount, 0603; Part Number: ERA3AEB392V; Manufacturer: Panasonic
footprint RESC1608X55X30ML20T20 (Chip Resistor, 2-Leads, Body 1.60x0.80mm, IPC Low Density)
footprint RESC1608X55X30LL20T20 (Chip Resistor, 2-Leads, Body 1.60x0.80mm, IPC High Density)
footprint RESC1608X55X30NL20T20 (Chip Resistor, 2-Leads, Body 1.60x0.80mm, IPC Medium Density)
pins: 1, 2
1 alternate drawing of the same symbol

## CMP-2000-02954-1
designator R?, comment 182k
Fixed Resistor, Metal Glaze/thick Film, 0.1W, 182000ohm, 75V, 1% +/-Tol, 100ppm/Cel, Surface Mount, 0603; Part Number: CRCW0603182KFKEA; Manufacturer: Vishay Dale
footprint RESC1609X50X30ML10T20 (Chip Resistor, 2-Leads, Body 1.55x0.85mm, IPC Low Density)
footprint RESC1609X50X30LL10T20 (Chip Resistor, 2-Leads, Body 1.55x0.85mm, IPC High Density)
footprint RESC1609X50X30NL10T20 (Chip Resistor, 2-Leads, Body 1.55x0.85mm, IPC Medium Density)
pins: 1, 2
1 alternate drawing of the same symbol

## CMP-2000-03092-2
designator R?, comment 22K
RES Thick Film, 22kΩ, 1%, 0.1W, 100ppm/°C, 0603; Voltage Rating: 75V; Max Power Dissipation: 100mW; Resistance: 22kR; Radiation Hardening: No; Termination: SMD/SMT; Composition: Thick Film; Tolerance: 1%; Temperature Coefficient: 100ppm/°C; Case Code (Imperial): 0603; Height: 0.45mm; Packaging: Tape and Reel; Power Rating: 100mW; Case/Package: 0603; Number of Terminations: 2; Package Quantity: 10; Weight: 7.1E-05oz; Voltage Rating (DC): 75V; Max Operating Temperature: 155°C; Contact Plating: Tin; Width: 0.85mm; Case Code (Metric): 1608; Mount: Surface Mount; Min Operating Temperature: -55°C; Depth: 0.85mm; Features: Automotive AEC-Q200; Military Standard: Not; Lead Free: Lead Free; Length: 1.55mm
footprint FP-CRCW0603-e3-IPC_B
footprint FP-CRCW0603-e3-IPC_A
footprint FP-CRCW0603-e3-MFG
footprint FP-CRCW0603-e3-IPC_C
pins: 1, 2

## CMP-2000-03159-1
designator R?, comment 2k
CRCW06032K00FKEA; Manufacturer: Vishay Dale; Part Number: CRCW06032K00FKEA
footprint RESC1609X50X30ML10T20 (Chip Resistor, 2-Leads, Body 1.55x0.85mm, IPC Low Density)
footprint RESC1609X50X30LL10T20 (Chip Resistor, 2-Leads, Body 1.55x0.85mm, IPC High Density)
footprint RESC1609X50X30NL10T20 (Chip Resistor, 2-Leads, Body 1.55x0.85mm, IPC Medium Density)
pins: 1, 2
1 alternate drawing of the same symbol

## CMP-2000-03303-1
designator R?, comment 3.4k
CRCW06033K40FKEA Fixed Resistor, Metal Glaze/thick Film, 0.1W, 3400ohm, 75V, 1% +/-Tol, 100ppm/Cel, Surface Mount, 0603; Manufacturer: Vishay Dale; Part Number: CRCW06033K40FKEA
footprint RESC1609X50X30LL10T20 (Chip Resistor, 2-Leads, Body 1.55x0.85mm, IPC High Density)
footprint RESC1609X50X30ML10T20 (Chip Resistor, 2-Leads, Body 1.55x0.85mm, IPC Low Density)
footprint RESC1609X50X30NL10T20 (Chip Resistor, 2-Leads, Body 1.55x0.85mm, IPC Medium Density)
pins: 1, 2
1 alternate drawing of the same symbol

## CMP-2000-03379-3
designator RS?, comment 47k
RES SMD 47K OHM 1% 1/10W 0603 CRCW060347K0FKEA; Voltage Rating: 75V; Max Power Dissipation: 100mW; Resistance: 47kR; Temperature Coefficient: 100ppm/°C; Size Code: 0603; Technology: THICK FILM; Case Code (Metric): 1608; Radiation Hardening: No; Case/Package: 0603; Number of Terminations: 2; Package Quantity: 5000; Width: 0.85mm; Series: CRCW; RoHS Compliant: Yes; Case Code (Imperial): 0603; Lead Free: Lead Free; Resistance Tolerance: 1%; Depth: 0.85mm; Contact Plating: Tin; Tolerance: 1%; Voltage Rating (DC): 75V; Min Operating Temperature: -55°C; Mount: Surface Mount; Packaging: Tape and Reel; Length: 1.55mm; Resistor Type: Thick Film; Features: Automotive AEC-Q200; Max Operating Temperature: 155°C; Weight: 7.1E-05oz; Construction: Rectangular; Height: 0.45mm; Military Standard: Not; Termination: SMD/SMT; Power Rating: 100mW
footprint FP-CRCW0603-e3-IPC_B
footprint FP-CRCW0603-e3-IPC_C
footprint FP-CRCW0603-e3-IPC_A
footprint FP-CRCW0603-e3-MFG
pins: 1, 2

## CMP-2000-05214-1
designator DQ?, comment SK104-TP
Schottky Rectifier, 40 V, 10 A, -55 to 125 degC, 2-Pin SMD, RoHS, Tape and Reel; Manufacturer: Micro Commercial Components; Max Surge Current: 250A; Maximum Reverse Leakage Current: 1mA; Peak Reverse Voltage: 40V; Forward Continuous Current: 10A; Mounting Style: SMD/SMT; Product: SchottkyRectifiers; Manufacturer URL: http://www.mccsemi.com/; Datasheet URL: https://datasheet.ciiva.com/4718/sk102-sk1010hsmc-27683-4718371.pdf; Datasheet Version: Rev. B, 05/2012; RoHS: Details; Packaging: Reel; Package / Case: DO-214AB; Operating Temperature Range: -55Cto+125C
footprint MCC-DO-214AB-2_V (Diode, 2-Leads, Body 6.18x6.1mm)
pins: 1 A, 2 K

## CMP-2000-05248-1
designator CD?, comment 502774-0891
Micro SD Memory Card Connector, 0.5 A, 10 V (DC), -25 to 85 degC, 8-Pin SMT, RoHS, Tape and Reel; Manufacturer: Molex; 3D Model: 502774-0891.stp; Online Catalog: microSD™Series; Number of Positions: 10(8+2); Card Type: SecureDigital-microSD™; Insertion, Removal Method: PushIn,PushOut; Other Names: WM24066DKR; Connector Type: ConnectorandEjector; Features: Switch; Family: MemoryConnectors-PCCardSockets; Manufacturer URL: http://www.molex.com/; Mounting Type: SurfaceMount,RightAngle; Contact Finish Thickness: 20µin(0.51µm); Standard Package: 1; Series: 502774; Ejector Side: -; Datasheet Version: Rev. D, 04/2004; Category: Connectors,Interconnects; Contact Finish: Gold; Datasheet URL: https://datasheet.ciiva.com/1104/1499551-1104671.pdf; RoHS Information: 502774-0891CertofCompliance; Mounting Feature: Reverse-Bottom; Packaging: Digi-Reel; Height Above Board: 0.071"(1.80mm); Catalog Drawings: 502774-0891
footprint MOLX-502774-0891_V (SMD, 14-Leads, Body 15x14.3mm, Pitch 1.1mm)
pins: 1 DAT2, 2 CD/DAT3, 3 CMD, 4 VDD, 5 CLK, 6 VSS, 7 DAT0, 8 DAT1, 9 DETECT, 10 SWITCH, 11 SHLD, 12 SHLD, 13 SHLD, 14 SHLD
text: CD/; DAT3; SD CARD; DET; SW

## CMP-2000-05256-2
designator C?, comment 10uF
CAP CER 10UF 50V X5R 1206; Manufacturer: Murata Electronics North America; Manufacturer Part Number: GRM31CR61H106KA12L; Tolerance: 10%; Temperature Coefficient: 15%; Material: Ceramic; Height: 1.8mm; Temperature: -55°C to +85°C; Lead Free: Yes; Temperature Characteristic: X5R; ComponentLink2Description: Datasheet; Digikey Description: CAP CER 10UF 50V X5R 1206; Octopart: https://octopart.com/grm31cr61h106ka12l-murata-18903335; Device Class L2: Capacitors; Automotive: No; Value: 10uF; Temperature Range High: +85°C; Temperature Range Low: -55°C; Device Class L3: Ceramic Capacitors; Voltage Rating: 50V; Capacitance: 10uF; Device Class L1: Passive Components; Mouser Description: Multilayer Ceramic Capacitors MLCC - SMD/SMT 1206 10uF 50volt X5R +/-10%; ComponentLink2URL: https://search.murata.co.jp/Ceramy/image/img/A01X/G101/ENG/GRM31CR61H106KA12-01A.pdf; Package: GRM31-0.2; RoHS: TRUE; Category: Cap
footprint FP-GRM31-0_2-MFG
footprint FP-GRM31-0_2-IPC_C
footprint FP-GRM31-0_2-IPC_B
footprint FP-GRM31-0_2-IPC_A
pins: 1, 2

## CMP-2000-05323-2
designator T?, comment HX1188NL
MODULE XFRMR SGL ETHR LAN 16SOIC; Turns Ratio: 1:1; Insertion Loss: -1dB; Isolation Voltage: 1.5kV; DC Resistance (DCR): 1.5R; Return Loss: -12dB; Shielding: Unshielded; Lead/Base Style: Gull Wing; Series: -; Depth: 9.53mm; Radiation Hardening: No; Height - Seated (Max): 6.22mm; Package Quantity: 40; Mount: Surface Mount; Width: 7.11mm; Lead Free: Lead Free; Number of Pins: 16; RoHS Compliant: Yes; Termination: SMD/SMT; Min Operating Temperature: -40°C; Packaging: Rail/Tube; Height: 5.97mm; Case/Package: Module; Max Operating Temperature: 85°C; Length: 12.7mm
footprint FP-HX1188NL-MFG
pins: 1 TD+, 2 TCT, 3 TD-, 4 NC, 5 NC, 6 RD+, 7 RCT, 8 RD-, 9 RX-, 10 CMT, 11 RX+, 12 NC, 13 NC, 14 TX-, 15 CMT, 16 TX+

## CMP-2000-05352-1
designator P?, comment FTSH-105-01-F-DV-K
Male Header, Pitch 1.27 mm, 2 x 5 Position, Height 6.12 mm, RoHS, Tube; Manufacturer: Samtec; Number of Positions: 10; Connector Type: Header,Shrouded; Number of Positions Loaded: All; Row Spacing: 0.050"(1.27mm); Fastening Type: -; Package Reference: FTSH-105-01-L-DV-K; Termination: Solder; Package URL: http://suddendocs.samtec.com/prints/ftsh-1xx-xx-xxx-dv-xxx-footprint.pdf; Number of Rows: 2; Contact Finish Thickness: 3µin(0.08µm); Contact Type: MalePin; Manufacturer URL: http://www.samtec.com/; Contact Mating Length: 0.120"(3.05mm); Pitch: 0.050"(1.27mm); Series: FTSH; Features: -; Contact Finish: Gold; Color: Black; Family: RectangularConnectors-Headers,MalePins; Datasheet URL: http://suddendocs.samtec.com/prints/ftsh-1xx-xx-xxx-dv-xxx-mkt.pdf; Package Description: Male Header, Pitch 1.27 mm, 2 x 5 Position, Height 5.97 mm, Tail Length 4.32 mm; Mounting Type: SurfaceMount; Datasheet Version: Rev. ET, 10/1995; Category: Connectors,Interconnects; Packaging: Tube
footprint SMTC-FTSH-105-01-L-DV-K_V (CONN, 10-Leads, Body 6.35x3.43mm, Pitch 1.27mm)
pins: 1, 2, 3, 4, 5, 6, 7, 8, 9, 10

## CMP-2000-06938-1
designator R?, comment 33k
Chip Resistor, 33 KOhm, +/- 1%, 0.1 W, -55 to 155 degC, 0603 (1608 Metric), RoHS, Tape and Reel; Manufacturer: Yageo; Voltage Rating: 50V; Power Rating: 100mW; Resistance: 33kOhms; Temperature Coefficient: 100PPM/C; Datasheet Version: Rev. 7, 05/2017; Case Code - in: 0603; Product: ThickFilmResistorsGeneralPurpose; Tolerance: 1%; Case Code - mm: 1608; Manufacturer URL: http://www.yageo.com/; Datasheet URL: http://www.yageo.com/documents/recent/PYu-RC_Group_51_RoHS_L_7.pdf; Termination Style: SMD/SMT; Package Description: 2-Pin Surface Mount Device, Body 1.6 x 0.8 mm; Series: RC; Packaging: Reel; Mounting Technology: SurfaceMount; Operating Temperature Range: -55Cto+155C; Package Reference: 0603
footprint RESC1608X55X25LL10T15 (Chip Resistor, 2-Leads, Body 1.60x0.80mm, IPC High Density)
footprint RESC1608X55X25ML10T15 (Chip Resistor, 2-Leads, Body 1.70x0.90mm, IPC Low Density)
footprint RESC1608X55X25NL10T15 (Chip Resistor, 2-Leads, Body 1.70x0.90mm, IPC Medium Density)
pins: 1, 2

## CMP-2000-07294-2
designator C?, comment 100UF
CAP TANT 100UF 10% 25V 2312; Voltage Rating: 10V; Leakage Current: 10uA; Dissipation Factor: 8%; Dielectric Material: Tantalum; ESR (Equivalent Series Resistance): 100mR; Polarity: Polar; Depth: 3.2mm; Number of Pins: 2; Height - Seated (Max): 0.11inch; Case Code (Imperial): 2412; Lead Pitch: 2.9mm; Package Quantity: 1; Size: 2.6mm; Case Code (Metric): 6032; Termination: SMD/SMT; Mount: Surface Mount; Height: 2.6mm; Max Operating Temperature: 125°C; Width: 3.2mm; Radiation Hardening: No; REACH SVHC: No SVHC; Capacitance: 100uF; Packaging: Tape and Reel; Voltage: 10V; Construction: Flat; Case/Package: 6032-28; Features: General Purpose; Lead Free: Lead Free; Length: 6mm; Voltage Rating (DC): 10V; Tolerance: 10%; RoHS Compliant: Yes; Min Operating Temperature: -55°C; Series: TPS
footprint FP-TPSC-MFG
pins: 1 C, 2 A
text: +

## CMP-2000-07546-2
designator C?, comment 100nF
Cap Ceramic 100nF 50V X7R 10% Pad SMD 0603 +125°C Automotive T/R; Weight: 7.1E-05oz; Composition: Ceramic; Max Operating Temperature: 125°C; Termination: SMD/SMT; Dielectric: X7R; Length: 1.6mm; Package Quantity: 1; REACH SVHC: No SVHC; Lead Free: Lead Free; Case Code (Metric): 1608; Min Operating Temperature: -55°C; Packaging: Tape and Reel; Tolerance: 10%; Voltage Rating: 50V; Case Code (Imperial): 0603; Capacitance: 100nF; Case/Package: 0603; Voltage Rating (DC): 50V; Depth: 0.8mm; Radiation Hardening: No; Ratings: AEC-Q200; Mount: Surface Mount; Voltage: 50V; Thickness: 0.035inch; Width: 0.8mm; Height: 0.8mm
footprint FP-CGA3E-0_3-0_1-IPC_A
footprint FP-CGA3E-0_3-0_1-IPC_C
footprint FP-CGA3E-0_3-0_1-IPC_B
footprint FP-CGA3E-0_3-0_1-MFG
pins: 1, 2

## CMP-2001-04908-2
designator R?, comment 10k
RES Thick Film, 10kΩ, 1%, 0.125W, 100ppm/°C, 0805; Resistance: 10kR; Voltage Rating (DC): 150V; Power Rating: 125mW; Weight: 0.000194oz; Package Quantity: 5000; Military Standard: Not; Max Operating Temperature: 155°C; Temperature Coefficient: 100ppm/°C; Contact Plating: Tin; Width: 1.25mm; Height: 0.45mm; Radiation Hardening: No; Tolerance: 1%; Min Operating Temperature: -55°C; Voltage Rating: 150V; Length: 2mm; Depth: 1.25mm; Termination: SMD/SMT; Packaging: Tape and Reel; Case/Package: 0805; Case Code (Metric): 2012; Lead Free: Lead Free; Case Code (Imperial): 0805; Composition: Thick Film
footprint FP-CRCW0805-e3-IPC_A
footprint FP-CRCW0805-e3-MFG
footprint FP-CRCW0805-e3-IPC_C
footprint FP-CRCW0805-e3-IPC_B
pins: 1, 2

## CMP-2002-08313-2
designator R?, comment 1.96k
CRCW04021K96FKED  RES Thick Film, 1.96kΩ, 1%, 0.063W, 100ppm/°C, 0402; Power Rating: 63mW; Voltage Rating: 50V; Resistance: 1.96kR; Number of Terminations: 2; Number of Pins: 2; Temperature Coefficient: 100ppm/°C; Min Operating Temperature: -55°C; Height: 0.35mm; Max Operating Temperature: 155°C; Package Quantity: 10; Width: 0.5mm; Features: Automotive AEC-Q200; Termination: SMD/SMT; Contact Plating: Tin; Composition: Thick Film; Max Power Dissipation: 63mW; Case/Package: 0402; Case Code (Imperial): 0402; Packaging: Tape and Reel; Tolerance: 1%; Length: 1mm; Depth: 0.5mm; Case Code (Metric): 1005; Weight: 2.3E-05oz; Military Standard: Not; Radiation Hardening: No
footprint FP-CRCW0402-e3-MFG
footprint FP-CRCW0402-e3-IPC_B
footprint FP-CRCW0402-e3-IPC_A
footprint FP-CRCW0402-e3-IPC_C
pins: 1, 2